# Altium footprint library MCP2518FDT-E_SL.PcbLib: 3 footprints
Each footprint in its own frame and in the unit in brackets; x right, y up, seen from the top. Pads: shape width x height; smd on the part's side, far side on the other; paste and mask are expansions set on the pad; w line width, h text height; cw(c..) or ccw(c..) is an arc to the next point about the centre after c.
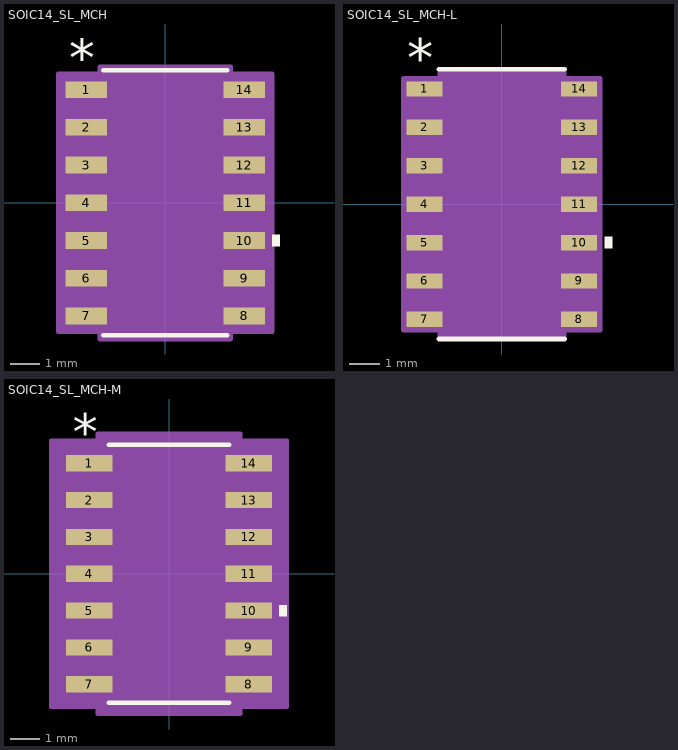
[diagram p0: the footprints below, top view; thin cyan lines are the x and y axes]

## SOIC14_SL_MCH [mil]
pads (14):
  rect 55x22 smd paste+0 mask+0: 1(-104.5,150) 2(-104.5,100) 3(-104.5,50) 4(-104.5,0) 5(-104.5,-50) 6(-104.5,-100) 7(-104.5,-150) 8(104.5,-150) 9(104.5,-100) 10(104.5,-50) 11(104.5,0) 12(104.5,50) 13(104.5,100) 14(104.5,150)
Top Overlay:
  region: 142,-42.5 152,-42.5 152,-57.5 142,-57.5
  lines w6: -82,-175.5 82,-175.5 ; -82,175.5 82,175.5
  text "*" at -127,167 h50
Mechanical 13:
  lines w0: -12,170.5 ccw(c0,170.5) 12,170.5
  lines w1: -118,-160 -118,-140 -77,-140 -77,-160 -118,-160 ; -118,-110 -118,-90 -77,-90 -77,-110 -118,-110 ; -118,-60 -118,-40 -77,-40 -77,-60 -118,-60 ; -118,-10 -118,10 -77,10 -77,-10 -118,-10 ; -118,40 -118,60 -77,60 -77,40 -118,40 ; -118,90 -118,110 -77,110 -77,90 -118,90 ; -118,140 -118,160 -77,160 -77,140 -118,140 ; -77,-170.5 77,-170.5 77,170.5 -77,170.5 -77,-170.5 ; 77,-160 77,-140 118,-140 118,-160 77,-160 ; 77,-110 77,-90 118,-90 118,-110 77,-110 ; 77,-60 77,-40 118,-40 118,-60 77,-60 ; 77,-10 77,10 118,10 118,-10 77,-10 ; 77,40 77,60 118,60 118,40 77,40 ; 77,90 77,110 118,110 118,90 77,90 ; 77,140 77,160 118,160 118,140 77,140
  text "*" at -74.5,117.5 h50
Mechanical 15:
  region: -87,-171 -142,-171 -142,171 -87,171 -87,180.5 87,180.5 87,171 142,171 142,-171 87,-171 87,-180.5 -87,-180.5
  lines w6: -142,-171 -142,171 -87,171 -87,180.5 87,180.5 87,171 142,171 142,-171 87,-171 87,-180.5 -87,-180.5 -87,-171 -142,-171
3D body "SOIC14_SL_MCH.step": height 69.09, standoff 0, extent -117.99,-170.51 117.99,170.51

## SOIC14_SL_MCH-L [mil]
pads (14):
  rect 47x20 smd paste+0 mask+0: 1(-100.5,150) 2(-100.5,100) 3(-100.5,50) 4(-100.5,0) 5(-100.5,-50) 6(-100.5,-100) 7(-100.5,-150) 8(100.5,-150) 9(100.5,-100) 10(100.5,-50) 11(100.5,0) 12(100.5,50) 13(100.5,100) 14(100.5,150)
Top Overlay:
  region: 134,-42.5 144,-42.5 144,-57.5 134,-57.5
  lines w6: -82,-175.5 82,-175.5 ; -82,175.5 82,175.5
  text "*" at -123,165 h50
Mechanical 13:
  lines w0: -12,170.5 ccw(c0,170.5) 12,170.5
  lines w1: -118,-160 -118,-140 -77,-140 -77,-160 -118,-160 ; -118,-110 -118,-90 -77,-90 -77,-110 -118,-110 ; -118,-60 -118,-40 -77,-40 -77,-60 -118,-60 ; -118,-10 -118,10 -77,10 -77,-10 -118,-10 ; -118,40 -118,60 -77,60 -77,40 -118,40 ; -118,90 -118,110 -77,110 -77,90 -118,90 ; -118,140 -118,160 -77,160 -77,140 -118,140 ; -77,-170.5 77,-170.5 77,170.5 -77,170.5 -77,-170.5 ; 77,-160 77,-140 118,-140 118,-160 77,-160 ; 77,-110 77,-90 118,-90 118,-110 77,-110 ; 77,-60 77,-40 118,-40 118,-60 77,-60 ; 77,-10 77,10 118,10 118,-10 77,-10 ; 77,40 77,60 118,60 118,40 77,40 ; 77,90 77,110 118,110 118,90 77,90 ; 77,140 77,160 118,160 118,140 77,140
  text "*" at -74.5,117.5 h50
Mechanical 15:
  region: -81,-164 -128,-164 -128,164 -81,164 -81,174.5 81,174.5 81,164 128,164 128,-164 81,-164 81,-174.5 -81,-174.5
  lines w6: -128,-164 -128,164 -81,164 -81,174.5 81,174.5 81,164 128,164 128,-164 81,-164 81,-174.5 -81,-174.5 -81,-164 -128,-164
3D body "SOIC14_SL_MCH.step": height 69.09, standoff 0, extent -117.99,-170.51 117.99,170.51

## SOIC14_SL_MCH-M [mil]
pads (14):
  rect 63x22 smd paste+0 mask+0: 1(-108.5,150) 2(-108.5,100) 3(-108.5,50) 4(-108.5,0) 5(-108.5,-50) 6(-108.5,-100) 7(-108.5,-150) 8(108.5,-150) 9(108.5,-100) 10(108.5,-50) 11(108.5,0) 12(108.5,50) 13(108.5,100) 14(108.5,150)
Top Overlay:
  region: 150,-42.5 160,-42.5 160,-57.5 150,-57.5
  lines w6: -82,-175.5 82,-175.5 ; -82,175.5 82,175.5
  text "*" at -131,167 h50
Mechanical 13:
  lines w0: -12,170.5 ccw(c0,170.5) 12,170.5
  lines w1: -118,-160 -118,-140 -77,-140 -77,-160 -118,-160 ; -118,-110 -118,-90 -77,-90 -77,-110 -118,-110 ; -118,-60 -118,-40 -77,-40 -77,-60 -118,-60 ; -118,-10 -118,10 -77,10 -77,-10 -118,-10 ; -118,40 -118,60 -77,60 -77,40 -118,40 ; -118,90 -118,110 -77,110 -77,90 -118,90 ; -118,140 -118,160 -77,160 -77,140 -118,140 ; -77,-170.5 77,-170.5 77,170.5 -77,170.5 -77,-170.5 ; 77,-160 77,-140 118,-140 118,-160 77,-160 ; 77,-110 77,-90 118,-90 118,-110 77,-110 ; 77,-60 77,-40 118,-40 118,-60 77,-60 ; 77,-10 77,10 118,10 118,-10 77,-10 ; 77,40 77,60 118,60 118,40 77,40 ; 77,90 77,110 118,110 118,90 77,90 ; 77,140 77,160 118,160 118,140 77,140
  text "*" at -74.5,117.5 h50
Mechanical 15:
  region: -97,-181 -160,-181 -160,181 -97,181 -97,190.5 97,190.5 97,181 160,181 160,-181 97,-181 97,-190.5 -97,-190.5
  lines w6: -160,-181 -160,181 -97,181 -97,190.5 97,190.5 97,181 160,181 160,-181 97,-181 97,-190.5 -97,-190.5 -97,-181 -160,-181
3D body "SOIC14_SL_MCH.step": height 69.09, standoff 0, extent -117.99,-170.51 117.99,170.51